# Altium schematic symbol library LT3502AEDC#TRPBF.SchLib: 1 symbol
Pins are listed as number, name and electrical type; pins without a type are passive.

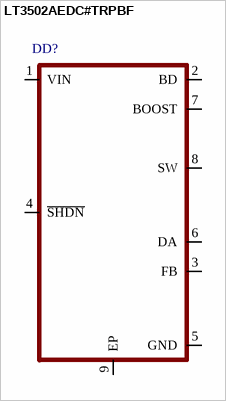
[diagram p0: symbol LT3502AEDC#TRPBF]

## LT3502AEDC#TRPBF
designator DD?
pins: 1 VIN, 2 BD, 3 FB, 4 ~{SHDN}, 5 GND, 6 DA, 7 BOOST, 8 SW, 9 EP